# EAGLE library part TPS51200 (library NewSDR)
Texas Instruments SINK/SOURCE DDR TERMINATION REGULATOR
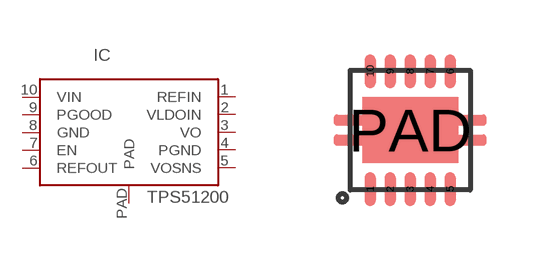
[diagram p182: symbol with the pads of DRC; footprint DRC]

Designator prefix IC

## TPS51200  [DRC]
1  REFIN  pwr
2  VLDOIN  pwr
3  VO  pwr
4  PGND  pwr
5  VOSNS  pas
6  REFOUT  pwr
7  EN  in
8  GND  pwr
9  PGOOD  oc
10  VIN  pwr
PAD  PAD  pwr

## Footprint DRC (pad centres in mm)
VTT TERMINATION DRC PACKAGE
smd 0.28 x 0.85: 1 -1,-1.475; 2 -0.5,-1.475; 3 0,-1.475; 4 0.5,-1.475; 5 1,-1.475; 6 1,1.475; 7 0.5,1.475; 8 0,1.475; 9 -0.5,1.475; 10 -1,1.475
smd 2.4 x 1.65: PAD 0,0